# EAGLE library part WM8804 (library wm8804)
TRANSCEIVER, S/PDIF, 1:1, 20SSOP Supply Voltage Range: 2.7V to 3.6V Logic Case Style: SSOP No. of Pins: 20 Operating Temperature Range: -40°C to +85°C SVHC: No SVHC (19-Dec-2011) Interface Type: Serial, 2 / 3 Wire Line / Bus Driver / Receiver / Transceiver Type: Digital Interface Transceiver with PLL No. of Channels: 2 Package / Case: SSOP Supply Current: 14.9mA Supply Voltage Max: 3.6V Supply Voltage Min: 2.7V Termination Type: SMD datasheet <http://roduino.ro/wp-content/uploads/2012/06/wm8804.pdf>
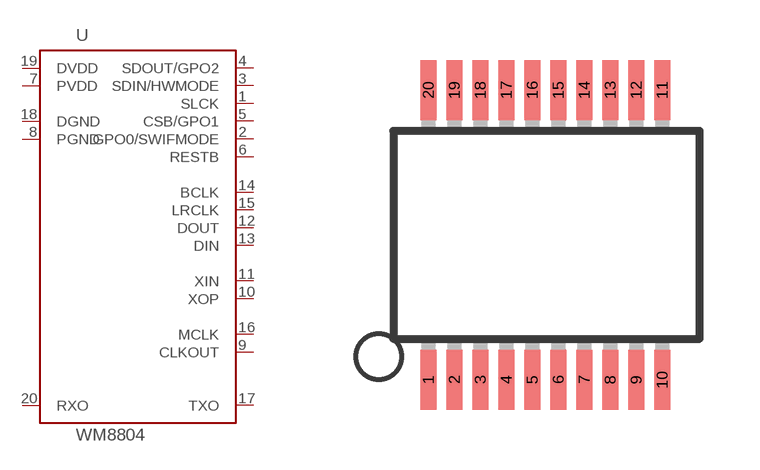
[diagram p0: symbol with the pads of SSOP20; footprint SSOP20]

Designator prefix -

## WM8804  [SSOP20]
1  SLCK  in
2  GPO0/SWIFMODE  out
3  SDIN/HWMODE  in
4  SDOUT/GPO2  out
5  CSB/GPO1  in
6  RESTB  in
7  PVDD  pwr
8  PGND  pwr
9  CLKOUT  out
10  XOP
11  XIN
12  DOUT  out
13  DIN  in
14  BCLK
15  LRCLK
16  MCLK
17  TXO  out
18  DGND  pwr
19  DVDD  pwr
20  RXO  in

## Footprint SSOP20 (pad centres in mm)
smd 0.4 x 1.5: 1 -2.955,-3.625; 2 -2.305,-3.625; 3 -1.655,-3.625; 4 -1.005,-3.625; 5 -0.355,-3.625; 6 0.295,-3.625; 7 0.945,-3.625; 8 1.595,-3.625; 9 2.245,-3.625; 10 2.895,-3.625; 11 2.895,3.625; 12 2.245,3.625; 13 1.595,3.625; 14 0.945,3.625; 15 0.295,3.625; 16 -0.355,3.625; 17 -1.005,3.625; 18 -1.655,3.625; 19 -2.305,3.625; 20 -2.955,3.625